# Altium integrated library Analog Devices Clock Generation and Distribution.IntLib: 120 symbols (part 6 of 18)
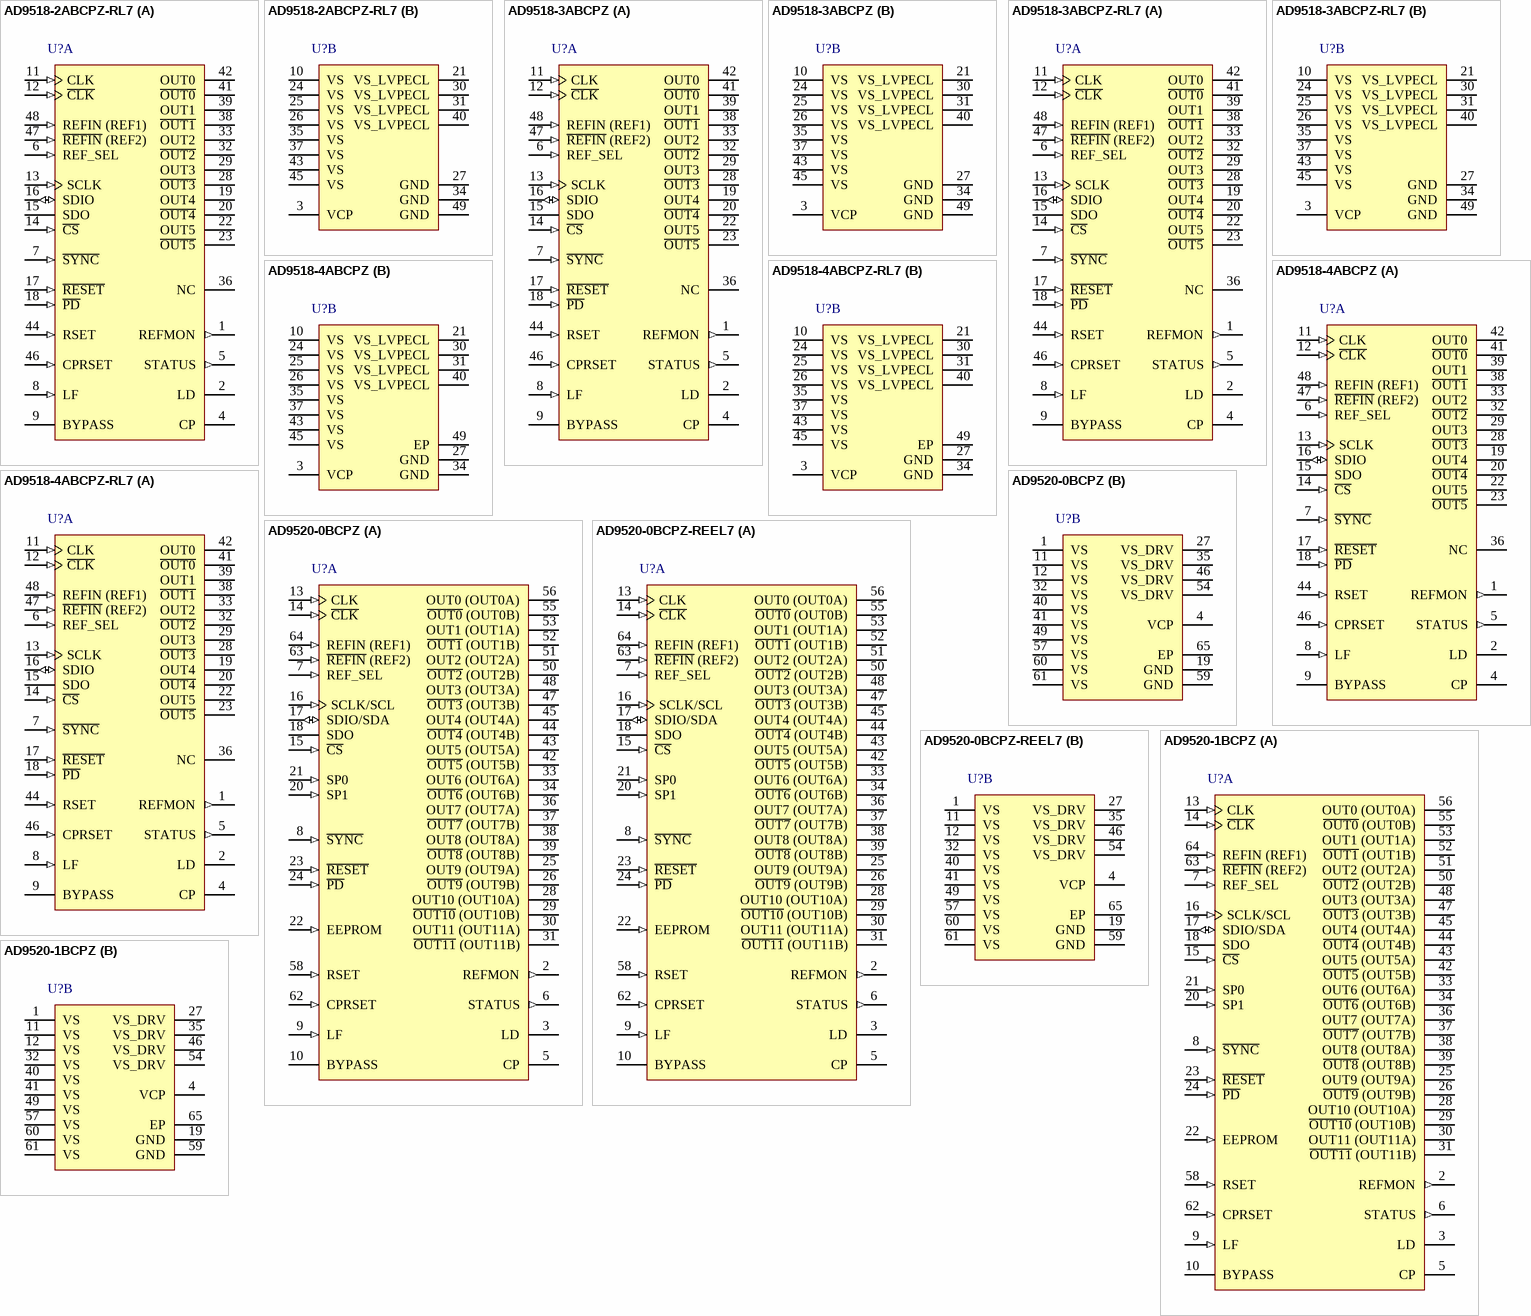
[diagram p17: symbols AD9518-2ABCPZ-RL7 to AD9520-1BCPZ]

## AD9520-0BCPZ-REEL7
designator U?
12 LVPECL / 24 CMOS Outputs Clock Generator with Integrated 2.8 GHz VCO, 3.3 V Supply, Commercial, 64-pin QFN (CP-64-4), Reel; Manufacturer: Analog Devices; PartNumber: AD9520-0BCPZ-REEL7; # of Inputs: 2; # of Outputs: 24; Supply Voltage (V): 3.3; I/O Interface: Serial; Max f-out: 2.95 GHz; On-Chip VCO or DCO: Yes; Output Logic: CMOS, LVPECL; DatasheetVersion: Rev. 0; PackageVersion: 06-12-2012-B, 06/2012; PackageReference: CP-64-4; PackageDescription: 64-Pin Lead Frame Chip Scale Package, Body 9 x 9 mm, Pitch 0.5 mm; Supplier 1: Digi-Key; Supplier Part Number 1: AD9520-0BCPZ-REEL7-ND; Supplier 2: Mouser; Supplier Part Number 2: 584-AD9520-0BCPZR7; Packing: Reel; Mounting Technology: Surface Mount; Code_JEDEC: MO-220-VMMD-4; ComponentLink1Description: Manufacturer URL; ComponentLink1URL: http://www.analog.com/en/index.html; ComponentLink2Description: Datasheet; ComponentLink2URL: http://www.analog.com/static/imported-files/data_sheets/AD9520-0.pdf; ComponentLink3Description: Package Specification; ComponentLink3URL: http://www.analog.com/static/imported-files/packages/PKG_PDF/LFCSP(CP)/CP_64_4.pdf; ComponentLink4Description: Product URL; ComponentLink4URL: http://www.analog.com/en/clock-and-timing/clock-generation-and-distribution/ad9520-0/products/product.html; ComponentLink5Description: Reference Circuit; ComponentLink5URL: http://www.analog.com/en/clock-and-timing/clock-generation-and-distribution/ad9520-0/products/product.html#product-recommendations
footprint ADI-CP-64-4_N (QFN, 64-Leads, Body 9x9mm, Pitch 0.5mm, Thermal Pad 6.2x6.2mm, IPC Medium Density)
footprint ADI-CP-64-4_L (QFN, 64-Leads, Body 9x9mm, Pitch 0.5mm, Thermal Pad 6.2x6.2mm, IPC High Density)
footprint ADI-CP-64-4_M (QFN, 64-Leads, Body 9x9mm, Pitch 0.5mm, Thermal Pad 6.2x6.2mm, IPC Low Density)
part A pins: 2 REFMON (out) "Reference Monitor (Output). This pin has multiple selectable outputs.", 3 LD (hiz) "Lock Detect (Output). This pin has multiple selectable outputs.", 5 CP (hiz) "Charge Pump (Output). This pin connects to an external loop filter. This pin can be left unconnected if the PLL is not used.", 6 STATUS (out) "Programmable Status Output.", 7 REF_SEL (in) "Reference Select. It selects REF1 (low) or REF2 (high). This pin has an internal 30 K ohm pull-down resistor.", 8 ~{SYNC} (in) "Manual Synchronizations and Manual Holdover. This pin initiates a manual synchronization and is used for manual holdover. Active low. This pin has an internal 30 K ohm pull-up resistor.", 9 LF (in) "Loop Filter (Input). It connects internally to the VCO control voltage node.", 10 BYPASS "This pin is for bypassing the LDO to ground with a 220 nF capacitor. This pin can be left unconnected if the PLL is not used.", 13 CLK (in) "Along with C\L\K\, this pin is the differential input for the clock distribution section.", 14 ~{CLK} (in) "Along with CLK, this pin is the differential input for the clock distribution section. If a single-ended input is connected to the CLK pin, connect a 0.1 uF bypass capacitor from this pin to ground.", 15 ~{CS} (in) "Serial Control Port Chip Select; Active Low. This pin has an internal 30 K ohm pull-up resistor.", 16 SCLK/SCL (in) "Serial Control Port Clock Signal. This pin has an internal 30 K ohm pull-down resistor in SPI mode but is high impedance in I2C mode.", 17 SDIO/SDA (io) "Serial Control Port Bidirectional Serial Data In/Out.", 18 SDO (hiz) "Serial Control Port Unidirectional Serial Data Out.", 20 SP1 (in) "Select SPI or I2C as the serial interface port and select the I2C slave address in I2C mode. Three-level logic. This pin is internally biased for the open logic level.", 21 SP0 (in) "Select SPI or I2C as the serial interface port and select the I2C slave address in I2C mode. Three-level logic. This pin is internally biased for the open logic level.", 22 EEPROM (in) "Setting this pin high selects the register values stored in the internal EEPROM to be loaded at reset and/or power-up. Setting this pin low causes the AD9520 to load the hard-coded default register values at power-up/reset. [see datasheet]", 23 ~{RESET} (in) "Chip Reset, Active Low. This pin has an internal 30 K ohm pull-up resistor.", 24 ~{PD} (in) "Chip Power-Down, Active Low. This pin has an internal 30 K ohm pull-up resistor.", 25 OUT9 (OUT9A) (hiz) "Clock Output. This pin can be configured as one side of a differential LVPECL output or as a single-ended CMOS output.", 26 ~{OUT9} (OUT9B) (hiz) "Clock Output. This pin can be configured as one side of a differential LVPECL output or as a single-ended CMOS output.", 28 OUT10 (OUT10A) (hiz) "Clock Output. This pin can be configured as one side of a differential LVPECL output or as a single-ended CMOS output.", 29 ~{OUT10} (OUT10B) (hiz) "Clock Output. This pin can be configured as one side of a differential LVPECL output or as a single-ended CMOS output.", 30 OUT11 (OUT11A) (hiz) "Clock Output. This pin can be configured as one side of a differential LVPECL output or as a single-ended CMOS output.", 31 ~{OUT11} (OUT11B) (hiz) "Clock Output. This pin can be configured as one side of a differential LVPECL output or as a single-ended CMOS output.", 33 OUT6 (OUT6A) (hiz) "Clock Output. This pin can be configured as one side of a differential LVPECL output or as a single-ended CMOS output.", 34 ~{OUT6} (OUT6B) (hiz) "Clock Output. This pin can be configured as one side of a differential LVPECL output or as a single-ended CMOS output.", 36 OUT7 (OUT7A) (hiz) "Clock Output. This pin can be configured as one side of a differential LVPECL output or as a single-ended CMOS output.", 37 ~{OUT7} (OUT7B) (hiz) "Clock Output. This pin can be configured as one side of a differential LVPECL output or as a single-ended CMOS output.", 38 OUT8 (OUT8A) (hiz) "Clock Output. This pin can be configured as one side of a differential LVPECL output or as a single-ended CMOS output.", 39 ~{OUT8} (OUT8B) (hiz) "Clock Output. This pin can be configured as one side of a differential LVPECL output or as a single-ended CMOS output.", 42 ~{OUT5} (OUT5B) (hiz) "Clock Output. This pin can be configured as one side of a differential LVPECL output or as a single-ended CMOS output.", 43 OUT5 (OUT5A) (hiz) "Clock Output. This pin can be configured as one side of a differential LVPECL output or as a single-ended CMOS output.", 44 ~{OUT4} (OUT4B) (hiz) "Clock Output. This pin can be configured as one side of a differential LVPECL output or as a single-ended CMOS output.", 45 OUT4 (OUT4A) (hiz) "Clock Output. This pin can be configured as one side of a differential LVPECL output or as a single-ended CMOS output.", 47 ~{OUT3} (OUT3B) (hiz) "Clock Output. This pin can be configured as one side of a differential LVPECL output or as a single-ended CMOS output.", 48 OUT3 (OUT3A) (hiz) "Clock Output. This pin can be configured as one side of a differential LVPECL output or as a single-ended CMOS output.", 50 ~{OUT2} (OUT2B) (hiz) "Clock Output. This pin can be configured as one side of a differential LVPECL output or as a single-ended CMOS output.", 51 OUT2 (OUT2A) (hiz) "Clock Output. This pin can be configured as one side of a differential LVPECL output or as a single-ended CMOS output.", 52 ~{OUT1} (OUT1B) (hiz) "Clock Output. This pin can be configured as one side of a differential LVPECL output or as a single-ended CMOS output.", 53 OUT1 (OUT1A) (hiz) "Clock Output. This pin can be configured as one side of a differential LVPECL output or as a single-ended CMOS output.", 55 ~{OUT0} (OUT0B) (hiz) "Clock Output. This pin can be configured as one side of a differential LVPECL output or as a single-ended CMOS output.", 56 OUT0 (OUT0A) (hiz) "Clock Output. This pin can be configured as one side of a differential LVPECL output or as a single-ended CMOS output.", 58 RSET (in) "Clock Distribution Current Set Resistor. Connect a 4.12 K ohm resistor from this pin to GND.", 62 CPRSET (in) "Charge Pump Current Set Resistor. Connect a 5.1 K ohm resistor from this pin to GND.This resistor can be omitted if the PLL is not used.", 63 ~{REFIN} (REF2) (in) "Along with REFIN, this is the differential input for the PLL reference. Alternatively, this pin is a single-ended input for REF2.", 64 REFIN (REF1) (in) "Along with R\E\F\I\N\, this is the differential input for the PLL reference. Alternatively, this pin is a single-ended input for REF1."
part B pins: 1 VS (power) "3.3 V Power Pins.", 4 VCP (power) "Power Supply for Charge Pump (CP); VS < VCP < 5.0 V. VCP must still be connected to 3.3 V if the PLL is not used.", 11 VS (power) "3.3 V Power Pins.", 12 VS (power) "3.3 V Power Pins.", 19 GND (power) "Ground Pins.", 27 VS_DRV (power) "Output Driver Power Supply Pins. As a group, these pins can be set to either 2.5 V or 3.3 V. All four pins must be set to the same voltage.", 32 VS (power) "3.3 V Power Pins.", 35 VS_DRV (power) "Output Driver Power Supply Pins. As a group, these pins can be set to either 2.5 V or 3.3 V. All four pins must be set to the same voltage.", 40 VS (power) "3.3 V Power Pins.", 41 VS (power) "3.3 V Power Pins.", 46 VS_DRV (power) "Output Driver Power Supply Pins. As a group, these pins can be set to either 2.5 V or 3.3 V. All four pins must be set to the same voltage.", 49 VS (power) "3.3 V Power Pins.", 54 VS_DRV (power) "Output Driver Power Supply Pins. As a group, these pins can be set to either 2.5 V or 3.3 V. All four pins must be set to the same voltage.", 57 VS (power) "3.3 V Power Pins.", 59 GND (power) "Ground Pins.", 60 VS (power) "3.3 V Power Pins.", 61 VS (power) "3.3 V Power Pins.", 65 EP (power) "The exposed die pad must be connected to GND."

## AD9520-1BCPZ
designator U?
12 LVPECL / 24 CMOS Outputs Clock Generator with Integrated 2.5 GHz VCO, 3.3 V Supply, Commercial, 64-pin QFN (CP-64-4), Tray; Manufacturer: Analog Devices; PartNumber: AD9520-1BCPZ; # of Inputs: 2; # of Outputs: 24; Supply Voltage (V): 3.3; I/O Interface: Serial; Max f-out: 2.65 GHz; On-Chip VCO or DCO: Yes; Output Logic: CMOS, LVPECL; DatasheetVersion: Rev. 0; PackageVersion: 06-12-2012-B, 06/2012; PackageReference: CP-64-4; PackageDescription: 64-Pin Lead Frame Chip Scale Package, Body 9 x 9 mm, Pitch 0.5 mm; Supplier 1: Digi-Key; Supplier Part Number 1: AD9520-1BCPZ-ND; Supplier 2: Newark; Supplier Part Number 2: 11P2934; Supplier 3: Mouser; Supplier Part Number 3: 584-AD9520-1BCPZ; Packing: Tray; Mounting Technology: Surface Mount; Code_JEDEC: MO-220-VMMD-4; ComponentLink1Description: Manufacturer URL; ComponentLink1URL: http://www.analog.com/en/index.html; ComponentLink2Description: Datasheet; ComponentLink2URL: http://www.analog.com/static/imported-files/data_sheets/AD9520-1.pdf; ComponentLink3Description: Package Specification; ComponentLink3URL: http://www.analog.com/static/imported-files/packages/PKG_PDF/LFCSP(CP)/CP_64_4.pdf; ComponentLink4Description: Product URL; ComponentLink4URL: http://www.analog.com/en/clock-and-timing/clock-generation-and-distribution/ad9520-1/products/product.html; ComponentLink5Description: Reference Circuit; ComponentLink5URL: http://www.analog.com/en/clock-and-timing/clock-generation-and-distribution/ad9520-1/products/product.html#product-recommendations
footprint ADI-CP-64-4_N (QFN, 64-Leads, Body 9x9mm, Pitch 0.5mm, Thermal Pad 6.2x6.2mm, IPC Medium Density)
footprint ADI-CP-64-4_L (QFN, 64-Leads, Body 9x9mm, Pitch 0.5mm, Thermal Pad 6.2x6.2mm, IPC High Density)
footprint ADI-CP-64-4_M (QFN, 64-Leads, Body 9x9mm, Pitch 0.5mm, Thermal Pad 6.2x6.2mm, IPC Low Density)
part A pins: 2 REFMON (out) "Reference Monitor (Output). This pin has multiple selectable outputs.", 3 LD (hiz) "Lock Detect (Output). This pin has multiple selectable outputs.", 5 CP (hiz) "Charge Pump (Output). This pin connects to an external loop filter. This pin can be left unconnected if the PLL is not used.", 6 STATUS (out) "Programmable Status Output.", 7 REF_SEL (in) "Reference Select. It selects REF1 (low) or REF2 (high). This pin has an internal 30 K ohm pull-down resistor.", 8 ~{SYNC} (in) "Manual Synchronizations and Manual Holdover. This pin initiates a manual synchronization and is used for manual holdover. Active low. This pin has an internal 30 K ohm pull-up resistor.", 9 LF (in) "Loop Filter (Input). It connects internally to the VCO control voltage node.", 10 BYPASS "This pin is for bypassing the LDO to ground with a 220 nF capacitor. This pin can be left unconnected if the PLL is not used.", 13 CLK (in) "Along with C\L\K\, this pin is the differential input for the clock distribution section.", 14 ~{CLK} (in) "Along with CLK, this pin is the differential input for the clock distribution section. If a single-ended input is connected to the CLK pin, connect a 0.1 uF bypass capacitor from this pin to ground.", 15 ~{CS} (in) "Serial Control Port Chip Select; Active Low. This pin has an internal 30 K ohm pull-up resistor.", 16 SCLK/SCL (in) "Serial Control Port Clock Signal. This pin has an internal 30 K ohm pull-down resistor in SPI mode but is high impedance in I2C mode.", 17 SDIO/SDA (io) "Serial Control Port Bidirectional Serial Data In/Out.", 18 SDO (hiz) "Serial Control Port Unidirectional Serial Data Out.", 20 SP1 (in) "Select SPI or I2C as the serial interface port and select the I2C slave address in I2C mode. Three-level logic. This pin is internally biased for the open logic level.", 21 SP0 (in) "Select SPI or I2C as the serial interface port and select the I2C slave address in I2C mode. Three-level logic. This pin is internally biased for the open logic level.", 22 EEPROM (in) "Setting this pin high selects the register values stored in the internal EEPROM to be loaded at reset and/or power-up. Setting this pin low causes the AD9520 to load the hard-coded default register values at power-up/reset. [see datasheet]", 23 ~{RESET} (in) "Chip Reset, Active Low. This pin has an internal 30 K ohm pull-up resistor.", 24 ~{PD} (in) "Chip Power-Down, Active Low. This pin has an internal 30 K ohm pull-up resistor.", 25 OUT9 (OUT9A) (hiz) "Clock Output. This pin can be configured as one side of a differential LVPECL output or as a single-ended CMOS output.", 26 ~{OUT9} (OUT9B) (hiz) "Clock Output. This pin can be configured as one side of a differential LVPECL output or as a single-ended CMOS output.", 28 OUT10 (OUT10A) (hiz) "Clock Output. This pin can be configured as one side of a differential LVPECL output or as a single-ended CMOS output.", 29 ~{OUT10} (OUT10B) (hiz) "Clock Output. This pin can be configured as one side of a differential LVPECL output or as a single-ended CMOS output.", 30 OUT11 (OUT11A) (hiz) "Clock Output. This pin can be configured as one side of a differential LVPECL output or as a single-ended CMOS output.", 31 ~{OUT11} (OUT11B) (hiz) "Clock Output. This pin can be configured as one side of a differential LVPECL output or as a single-ended CMOS output.", 33 OUT6 (OUT6A) (hiz) "Clock Output. This pin can be configured as one side of a differential LVPECL output or as a single-ended CMOS output.", 34 ~{OUT6} (OUT6B) (hiz) "Clock Output. This pin can be configured as one side of a differential LVPECL output or as a single-ended CMOS output.", 36 OUT7 (OUT7A) (hiz) "Clock Output. This pin can be configured as one side of a differential LVPECL output or as a single-ended CMOS output.", 37 ~{OUT7} (OUT7B) (hiz) "Clock Output. This pin can be configured as one side of a differential LVPECL output or as a single-ended CMOS output.", 38 OUT8 (OUT8A) (hiz) "Clock Output. This pin can be configured as one side of a differential LVPECL output or as a single-ended CMOS output.", 39 ~{OUT8} (OUT8B) (hiz) "Clock Output. This pin can be configured as one side of a differential LVPECL output or as a single-ended CMOS output.", 42 ~{OUT5} (OUT5B) (hiz) "Clock Output. This pin can be configured as one side of a differential LVPECL output or as a single-ended CMOS output.", 43 OUT5 (OUT5A) (hiz) "Clock Output. This pin can be configured as one side of a differential LVPECL output or as a single-ended CMOS output.", 44 ~{OUT4} (OUT4B) (hiz) "Clock Output. This pin can be configured as one side of a differential LVPECL output or as a single-ended CMOS output.", 45 OUT4 (OUT4A) (hiz) "Clock Output. This pin can be configured as one side of a differential LVPECL output or as a single-ended CMOS output.", 47 ~{OUT3} (OUT3B) (hiz) "Clock Output. This pin can be configured as one side of a differential LVPECL output or as a single-ended CMOS output.", 48 OUT3 (OUT3A) (hiz) "Clock Output. This pin can be configured as one side of a differential LVPECL output or as a single-ended CMOS output.", 50 ~{OUT2} (OUT2B) (hiz) "Clock Output. This pin can be configured as one side of a differential LVPECL output or as a single-ended CMOS output.", 51 OUT2 (OUT2A) (hiz) "Clock Output. This pin can be configured as one side of a differential LVPECL output or as a single-ended CMOS output.", 52 ~{OUT1} (OUT1B) (hiz) "Clock Output. This pin can be configured as one side of a differential LVPECL output or as a single-ended CMOS output.", 53 OUT1 (OUT1A) (hiz) "Clock Output. This pin can be configured as one side of a differential LVPECL output or as a single-ended CMOS output.", 55 ~{OUT0} (OUT0B) (hiz) "Clock Output. This pin can be configured as one side of a differential LVPECL output or as a single-ended CMOS output.", 56 OUT0 (OUT0A) (hiz) "Clock Output. This pin can be configured as one side of a differential LVPECL output or as a single-ended CMOS output.", 58 RSET (in) "Clock Distribution Current Set Resistor. Connect a 4.12 K ohm resistor from this pin to GND.", 62 CPRSET (in) "Charge Pump Current Set Resistor. Connect a 5.1 K ohm resistor from this pin to GND.This resistor can be omitted if the PLL is not used.", 63 ~{REFIN} (REF2) (in) "Along with REFIN, this is the differential input for the PLL reference. Alternatively, this pin is a single-ended input for REF2.", 64 REFIN (REF1) (in) "Along with R\E\F\I\N\, this is the differential input for the PLL reference. Alternatively, this pin is a single-ended input for REF1."
part B pins: 1 VS (power) "3.3 V Power Pins.", 4 VCP (power) "Power Supply for Charge Pump (CP); VS < VCP < 5.0 V. VCP must still be connected to 3.3 V if the PLL is not used.", 11 VS (power) "3.3 V Power Pins.", 12 VS (power) "3.3 V Power Pins.", 19 GND (power) "Ground Pins.", 27 VS_DRV (power) "Output Driver Power Supply Pins. As a group, these pins can be set to either 2.5 V or 3.3 V. All four pins must be set to the same voltage.", 32 VS (power) "3.3 V Power Pins.", 35 VS_DRV (power) "Output Driver Power Supply Pins. As a group, these pins can be set to either 2.5 V or 3.3 V. All four pins must be set to the same voltage.", 40 VS (power) "3.3 V Power Pins.", 41 VS (power) "3.3 V Power Pins.", 46 VS_DRV (power) "Output Driver Power Supply Pins. As a group, these pins can be set to either 2.5 V or 3.3 V. All four pins must be set to the same voltage.", 49 VS (power) "3.3 V Power Pins.", 54 VS_DRV (power) "Output Driver Power Supply Pins. As a group, these pins can be set to either 2.5 V or 3.3 V. All four pins must be set to the same voltage.", 57 VS (power) "3.3 V Power Pins.", 59 GND (power) "Ground Pins.", 60 VS (power) "3.3 V Power Pins.", 61 VS (power) "3.3 V Power Pins.", 65 EP (power) "The exposed die pad must be connected to GND."

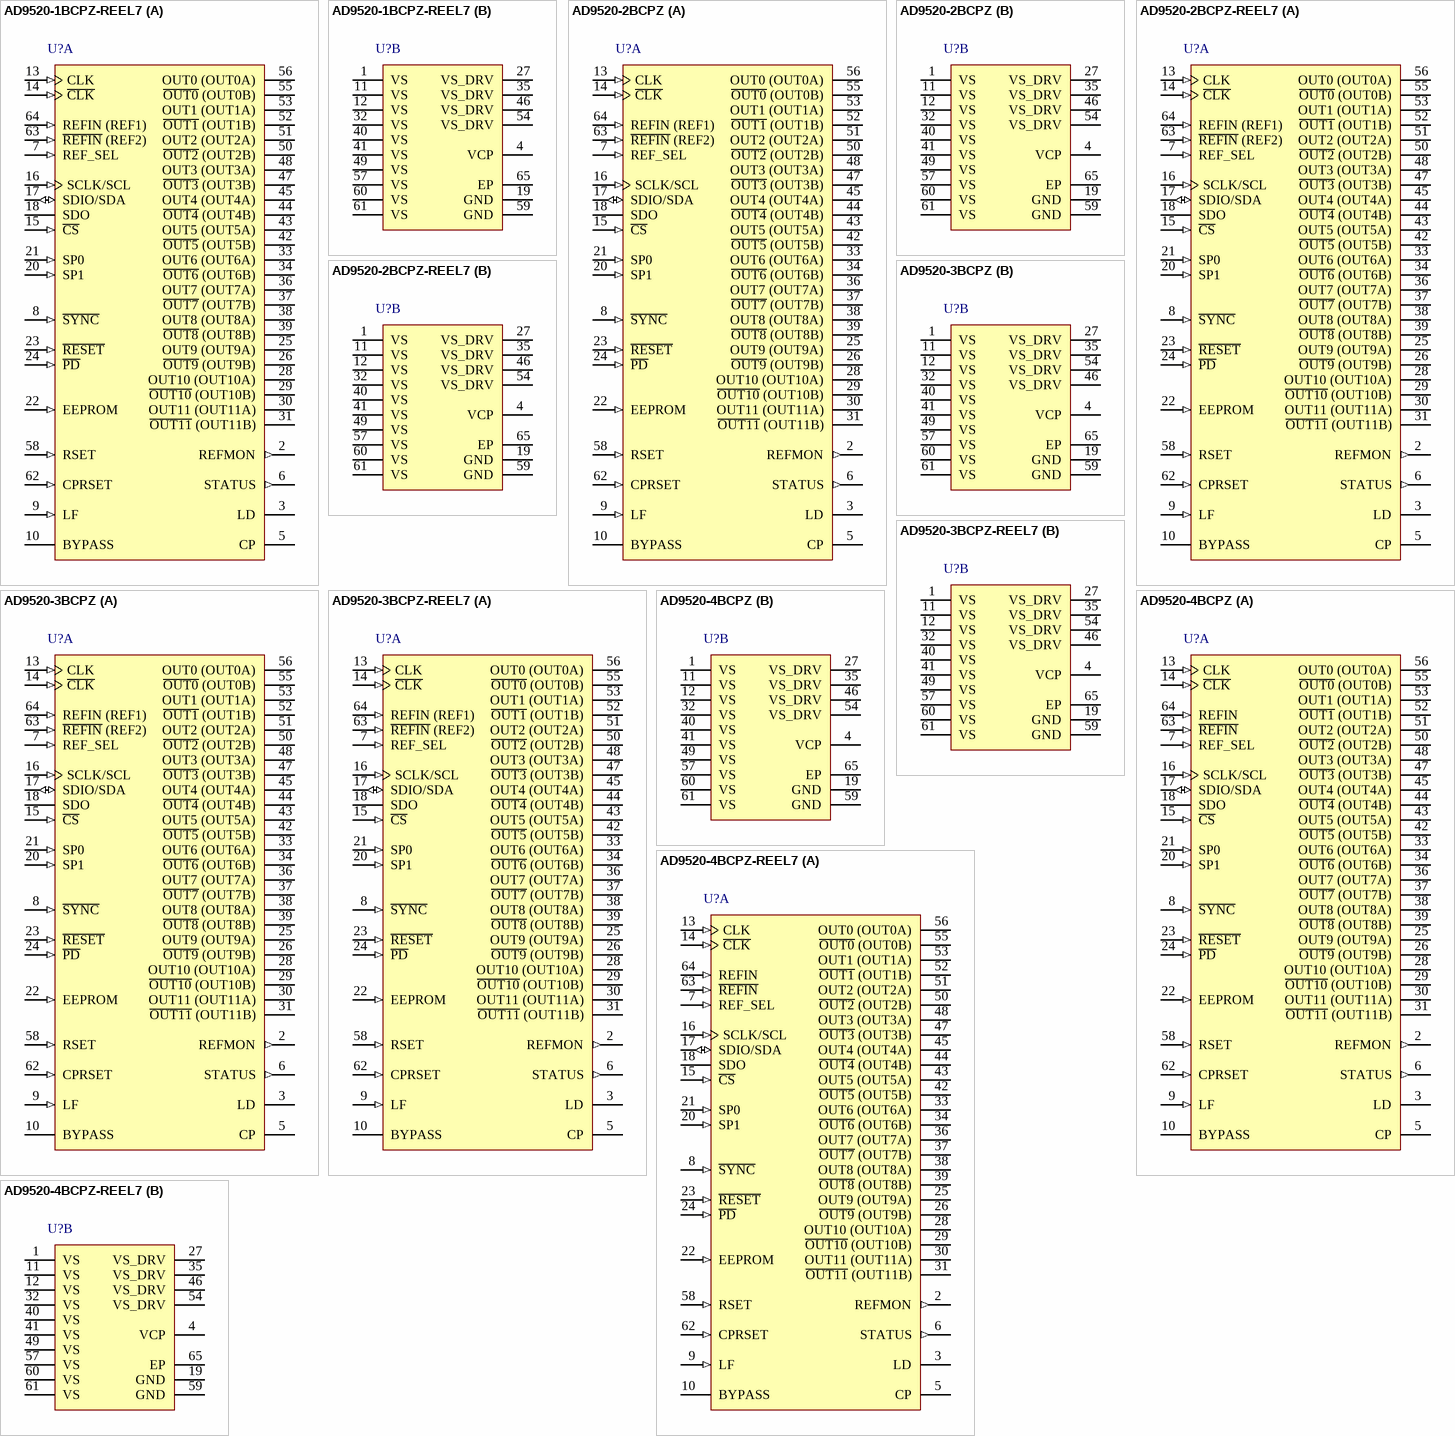
[diagram p4: symbols AD9520-1BCPZ-REEL7 to AD9520-4BCPZ-REEL7]

## AD9520-1BCPZ-REEL7
designator U?
12 LVPECL / 24 CMOS Outputs Clock Generator with Integrated 2.5 GHz VCO, 3.3 V Supply, Commercial, 64-pin QFN (CP-64-4), Reel; Manufacturer: Analog Devices; PartNumber: AD9520-1BCPZ-REEL7; # of Inputs: 2; # of Outputs: 24; Supply Voltage (V): 3.3; I/O Interface: Serial; Max f-out: 2.65 GHz; On-Chip VCO or DCO: Yes; Output Logic: CMOS, LVPECL; DatasheetVersion: Rev. 0; PackageVersion: 06-12-2012-B, 06/2012; PackageReference: CP-64-4; PackageDescription: 64-Pin Lead Frame Chip Scale Package, Body 9 x 9 mm, Pitch 0.5 mm; Supplier 1: Digi-Key; Supplier Part Number 1: AD9520-1BCPZ-REEL7-ND; Supplier 2: Mouser; Supplier Part Number 2: 584-AD9520-1BCPZR7; Packing: Reel; Mounting Technology: Surface Mount; Code_JEDEC: MO-220-VMMD-4; ComponentLink1Description: Manufacturer URL; ComponentLink1URL: http://www.analog.com/en/index.html; ComponentLink2Description: Datasheet; ComponentLink2URL: http://www.analog.com/static/imported-files/data_sheets/AD9520-1.pdf; ComponentLink3Description: Package Specification; ComponentLink3URL: http://www.analog.com/static/imported-files/packages/PKG_PDF/LFCSP(CP)/CP_64_4.pdf; ComponentLink4Description: Product URL; ComponentLink4URL: http://www.analog.com/en/clock-and-timing/clock-generation-and-distribution/ad9520-1/products/product.html; ComponentLink5Description: Reference Circuit; ComponentLink5URL: http://www.analog.com/en/clock-and-timing/clock-generation-and-distribution/ad9520-1/products/product.html#product-recommendations
footprint ADI-CP-64-4_N (QFN, 64-Leads, Body 9x9mm, Pitch 0.5mm, Thermal Pad 6.2x6.2mm, IPC Medium Density)
footprint ADI-CP-64-4_L (QFN, 64-Leads, Body 9x9mm, Pitch 0.5mm, Thermal Pad 6.2x6.2mm, IPC High Density)
footprint ADI-CP-64-4_M (QFN, 64-Leads, Body 9x9mm, Pitch 0.5mm, Thermal Pad 6.2x6.2mm, IPC Low Density)
part A pins: 2 REFMON (out) "Reference Monitor (Output). This pin has multiple selectable outputs.", 3 LD (hiz) "Lock Detect (Output). This pin has multiple selectable outputs.", 5 CP (hiz) "Charge Pump (Output). This pin connects to an external loop filter. This pin can be left unconnected if the PLL is not used.", 6 STATUS (out) "Programmable Status Output.", 7 REF_SEL (in) "Reference Select. It selects REF1 (low) or REF2 (high). This pin has an internal 30 K ohm pull-down resistor.", 8 ~{SYNC} (in) "Manual Synchronizations and Manual Holdover. This pin initiates a manual synchronization and is used for manual holdover. Active low. This pin has an internal 30 K ohm pull-up resistor.", 9 LF (in) "Loop Filter (Input). It connects internally to the VCO control voltage node.", 10 BYPASS "This pin is for bypassing the LDO to ground with a 220 nF capacitor. This pin can be left unconnected if the PLL is not used.", 13 CLK (in) "Along with C\L\K\, this pin is the differential input for the clock distribution section.", 14 ~{CLK} (in) "Along with CLK, this pin is the differential input for the clock distribution section. If a single-ended input is connected to the CLK pin, connect a 0.1 uF bypass capacitor from this pin to ground.", 15 ~{CS} (in) "Serial Control Port Chip Select; Active Low. This pin has an internal 30 K ohm pull-up resistor.", 16 SCLK/SCL (in) "Serial Control Port Clock Signal. This pin has an internal 30 K ohm pull-down resistor in SPI mode but is high impedance in I2C mode.", 17 SDIO/SDA (io) "Serial Control Port Bidirectional Serial Data In/Out.", 18 SDO (hiz) "Serial Control Port Unidirectional Serial Data Out.", 20 SP1 (in) "Select SPI or I2C as the serial interface port and select the I2C slave address in I2C mode. Three-level logic. This pin is internally biased for the open logic level.", 21 SP0 (in) "Select SPI or I2C as the serial interface port and select the I2C slave address in I2C mode. Three-level logic. This pin is internally biased for the open logic level.", 22 EEPROM (in) "Setting this pin high selects the register values stored in the internal EEPROM to be loaded at reset and/or power-up. Setting this pin low causes the AD9520 to load the hard-coded default register values at power-up/reset. [see datasheet]", 23 ~{RESET} (in) "Chip Reset, Active Low. This pin has an internal 30 K ohm pull-up resistor.", 24 ~{PD} (in) "Chip Power-Down, Active Low. This pin has an internal 30 K ohm pull-up resistor.", 25 OUT9 (OUT9A) (hiz) "Clock Output. This pin can be configured as one side of a differential LVPECL output or as a single-ended CMOS output.", 26 ~{OUT9} (OUT9B) (hiz) "Clock Output. This pin can be configured as one side of a differential LVPECL output or as a single-ended CMOS output.", 28 OUT10 (OUT10A) (hiz) "Clock Output. This pin can be configured as one side of a differential LVPECL output or as a single-ended CMOS output.", 29 ~{OUT10} (OUT10B) (hiz) "Clock Output. This pin can be configured as one side of a differential LVPECL output or as a single-ended CMOS output.", 30 OUT11 (OUT11A) (hiz) "Clock Output. This pin can be configured as one side of a differential LVPECL output or as a single-ended CMOS output.", 31 ~{OUT11} (OUT11B) (hiz) "Clock Output. This pin can be configured as one side of a differential LVPECL output or as a single-ended CMOS output.", 33 OUT6 (OUT6A) (hiz) "Clock Output. This pin can be configured as one side of a differential LVPECL output or as a single-ended CMOS output.", 34 ~{OUT6} (OUT6B) (hiz) "Clock Output. This pin can be configured as one side of a differential LVPECL output or as a single-ended CMOS output.", 36 OUT7 (OUT7A) (hiz) "Clock Output. This pin can be configured as one side of a differential LVPECL output or as a single-ended CMOS output.", 37 ~{OUT7} (OUT7B) (hiz) "Clock Output. This pin can be configured as one side of a differential LVPECL output or as a single-ended CMOS output.", 38 OUT8 (OUT8A) (hiz) "Clock Output. This pin can be configured as one side of a differential LVPECL output or as a single-ended CMOS output.", 39 ~{OUT8} (OUT8B) (hiz) "Clock Output. This pin can be configured as one side of a differential LVPECL output or as a single-ended CMOS output.", 42 ~{OUT5} (OUT5B) (hiz) "Clock Output. This pin can be configured as one side of a differential LVPECL output or as a single-ended CMOS output.", 43 OUT5 (OUT5A) (hiz) "Clock Output. This pin can be configured as one side of a differential LVPECL output or as a single-ended CMOS output.", 44 ~{OUT4} (OUT4B) (hiz) "Clock Output. This pin can be configured as one side of a differential LVPECL output or as a single-ended CMOS output.", 45 OUT4 (OUT4A) (hiz) "Clock Output. This pin can be configured as one side of a differential LVPECL output or as a single-ended CMOS output.", 47 ~{OUT3} (OUT3B) (hiz) "Clock Output. This pin can be configured as one side of a differential LVPECL output or as a single-ended CMOS output.", 48 OUT3 (OUT3A) (hiz) "Clock Output. This pin can be configured as one side of a differential LVPECL output or as a single-ended CMOS output.", 50 ~{OUT2} (OUT2B) (hiz) "Clock Output. This pin can be configured as one side of a differential LVPECL output or as a single-ended CMOS output.", 51 OUT2 (OUT2A) (hiz) "Clock Output. This pin can be configured as one side of a differential LVPECL output or as a single-ended CMOS output.", 52 ~{OUT1} (OUT1B) (hiz) "Clock Output. This pin can be configured as one side of a differential LVPECL output or as a single-ended CMOS output.", 53 OUT1 (OUT1A) (hiz) "Clock Output. This pin can be configured as one side of a differential LVPECL output or as a single-ended CMOS output.", 55 ~{OUT0} (OUT0B) (hiz) "Clock Output. This pin can be configured as one side of a differential LVPECL output or as a single-ended CMOS output.", 56 OUT0 (OUT0A) (hiz) "Clock Output. This pin can be configured as one side of a differential LVPECL output or as a single-ended CMOS output.", 58 RSET (in) "Clock Distribution Current Set Resistor. Connect a 4.12 K ohm resistor from this pin to GND.", 62 CPRSET (in) "Charge Pump Current Set Resistor. Connect a 5.1 K ohm resistor from this pin to GND.This resistor can be omitted if the PLL is not used.", 63 ~{REFIN} (REF2) (in) "Along with REFIN, this is the differential input for the PLL reference. Alternatively, this pin is a single-ended input for REF2.", 64 REFIN (REF1) (in) "Along with R\E\F\I\N\, this is the differential input for the PLL reference. Alternatively, this pin is a single-ended input for REF1."
part B pins: 1 VS (power) "3.3 V Power Pins.", 4 VCP (power) "Power Supply for Charge Pump (CP); VS < VCP < 5.0 V. VCP must still be connected to 3.3 V if the PLL is not used.", 11 VS (power) "3.3 V Power Pins.", 12 VS (power) "3.3 V Power Pins.", 19 GND (power) "Ground Pins.", 27 VS_DRV (power) "Output Driver Power Supply Pins. As a group, these pins can be set to either 2.5 V or 3.3 V. All four pins must be set to the same voltage.", 32 VS (power) "3.3 V Power Pins.", 35 VS_DRV (power) "Output Driver Power Supply Pins. As a group, these pins can be set to either 2.5 V or 3.3 V. All four pins must be set to the same voltage.", 40 VS (power) "3.3 V Power Pins.", 41 VS (power) "3.3 V Power Pins.", 46 VS_DRV (power) "Output Driver Power Supply Pins. As a group, these pins can be set to either 2.5 V or 3.3 V. All four pins must be set to the same voltage.", 49 VS (power) "3.3 V Power Pins.", 54 VS_DRV (power) "Output Driver Power Supply Pins. As a group, these pins can be set to either 2.5 V or 3.3 V. All four pins must be set to the same voltage.", 57 VS (power) "3.3 V Power Pins.", 59 GND (power) "Ground Pins.", 60 VS (power) "3.3 V Power Pins.", 61 VS (power) "3.3 V Power Pins.", 65 EP (power) "The exposed die pad must be connected to GND."

## AD9520-2BCPZ
designator U?
12 LVPECL / 24 CMOS Outputs Clock Generator with Integrated 2.2 GHz VCO, 3.3 V Supply, Commercial, 64-pin QFN (CP-64-4), Tray; Manufacturer: Analog Devices; PartNumber: AD9520-2BCPZ; # of Inputs: 2; # of Outputs: 24; Supply Voltage (V): 3.3; I/O Interface: Serial; Max f-out: 2.335 GHz; On-Chip VCO or DCO: Yes; Output Logic: CMOS, LVPECL; DatasheetVersion: Rev. 0; PackageVersion: 06-12-2012-B, 06/2012; PackageReference: CP-64-4; PackageDescription: 64-Pin Lead Frame Chip Scale Package, Body 9 x 9 mm, Pitch 0.5 mm; Supplier 1: Digi-Key; Supplier Part Number 1: AD9520-2BCPZ-ND; Supplier 2: Mouser; Supplier Part Number 2: 584-AD9520-2BCPZ; Packing: Tray; Mounting Technology: Surface Mount; Code_JEDEC: MO-220-VMMD-4; ComponentLink1Description: Manufacturer URL; ComponentLink1URL: http://www.analog.com/en/index.html; ComponentLink2Description: Datasheet; ComponentLink2URL: http://www.analog.com/static/imported-files/data_sheets/AD9520-2.pdf; ComponentLink3Description: Package Specification; ComponentLink3URL: http://www.analog.com/static/imported-files/packages/PKG_PDF/LFCSP(CP)/CP_64_4.pdf; ComponentLink4Description: Product URL; ComponentLink4URL: http://www.analog.com/en/clock-and-timing/clock-generation-and-distribution/ad9520-2/products/product.html; ComponentLink5Description: Reference Circuit; ComponentLink5URL: http://www.analog.com/en/clock-and-timing/clock-generation-and-distribution/ad9520-2/products/product.html#product-recommendations
footprint ADI-CP-64-4_N (QFN, 64-Leads, Body 9x9mm, Pitch 0.5mm, Thermal Pad 6.2x6.2mm, IPC Medium Density)
footprint ADI-CP-64-4_L (QFN, 64-Leads, Body 9x9mm, Pitch 0.5mm, Thermal Pad 6.2x6.2mm, IPC High Density)
footprint ADI-CP-64-4_M (QFN, 64-Leads, Body 9x9mm, Pitch 0.5mm, Thermal Pad 6.2x6.2mm, IPC Low Density)
part A pins: 2 REFMON (out) "Reference Monitor (Output). This pin has multiple selectable outputs.", 3 LD (hiz) "Lock Detect (Output). This pin has multiple selectable outputs.", 5 CP (hiz) "Charge Pump (Output). This pin connects to an external loop filter. This pin can be left unconnected if the PLL is not used.", 6 STATUS (out) "Programmable Status Output.", 7 REF_SEL (in) "Reference Select. It selects REF1 (low) or REF2 (high). This pin has an internal 30 K ohm pull-down resistor.", 8 ~{SYNC} (in) "Manual Synchronizations and Manual Holdover. This pin initiates a manual synchronization and is used for manual holdover. Active low. This pin has an internal 30 K ohm pull-up resistor.", 9 LF (in) "Loop Filter (Input). It connects internally to the VCO control voltage node.", 10 BYPASS "This pin is for bypassing the LDO to ground with a 220 nF capacitor. This pin can be left unconnected if the PLL is not used.", 13 CLK (in) "Along with C\L\K\, this pin is the differential input for the clock distribution section.", 14 ~{CLK} (in) "Along with CLK, this pin is the differential input for the clock distribution section. If a single-ended input is connected to the CLK pin, connect a 0.1 uF bypass capacitor from this pin to ground.", 15 ~{CS} (in) "Serial Control Port Chip Select; Active Low. This pin has an internal 30 K ohm pull-up resistor.", 16 SCLK/SCL (in) "Serial Control Port Clock Signal. This pin has an internal 30 K ohm pull-down resistor in SPI mode but is high impedance in I2C mode.", 17 SDIO/SDA (io) "Serial Control Port Bidirectional Serial Data In/Out.", 18 SDO (hiz) "Serial Control Port Unidirectional Serial Data Out.", 20 SP1 (in) "Select SPI or I2C as the serial interface port and select the I2C slave address in I2C mode. Three-level logic. This pin is internally biased for the open logic level.", 21 SP0 (in) "Select SPI or I2C as the serial interface port and select the I2C slave address in I2C mode. Three-level logic. This pin is internally biased for the open logic level.", 22 EEPROM (in) "Setting this pin high selects the register values stored in the internal EEPROM to be loaded at reset and/or power-up. Setting this pin low causes the AD9520 to load the hard-coded default register values at power-up/reset. [see datasheet]", 23 ~{RESET} (in) "Chip Reset, Active Low. This pin has an internal 30 K ohm pull-up resistor.", 24 ~{PD} (in) "Chip Power-Down, Active Low. This pin has an internal 30 K ohm pull-up resistor.", 25 OUT9 (OUT9A) (hiz) "Clock Output. This pin can be configured as one side of a differential LVPECL output or as a single-ended CMOS output.", 26 ~{OUT9} (OUT9B) (hiz) "Clock Output. This pin can be configured as one side of a differential LVPECL output or as a single-ended CMOS output.", 28 OUT10 (OUT10A) (hiz) "Clock Output. This pin can be configured as one side of a differential LVPECL output or as a single-ended CMOS output.", 29 ~{OUT10} (OUT10B) (hiz) "Clock Output. This pin can be configured as one side of a differential LVPECL output or as a single-ended CMOS output.", 30 OUT11 (OUT11A) (hiz) "Clock Output. This pin can be configured as one side of a differential LVPECL output or as a single-ended CMOS output.", 31 ~{OUT11} (OUT11B) (hiz) "Clock Output. This pin can be configured as one side of a differential LVPECL output or as a single-ended CMOS output.", 33 OUT6 (OUT6A) (hiz) "Clock Output. This pin can be configured as one side of a differential LVPECL output or as a single-ended CMOS output.", 34 ~{OUT6} (OUT6B) (hiz) "Clock Output. This pin can be configured as one side of a differential LVPECL output or as a single-ended CMOS output.", 36 OUT7 (OUT7A) (hiz) "Clock Output. This pin can be configured as one side of a differential LVPECL output or as a single-ended CMOS output.", 37 ~{OUT7} (OUT7B) (hiz) "Clock Output. This pin can be configured as one side of a differential LVPECL output or as a single-ended CMOS output.", 38 OUT8 (OUT8A) (hiz) "Clock Output. This pin can be configured as one side of a differential LVPECL output or as a single-ended CMOS output.", 39 ~{OUT8} (OUT8B) (hiz) "Clock Output. This pin can be configured as one side of a differential LVPECL output or as a single-ended CMOS output.", 42 ~{OUT5} (OUT5B) (hiz) "Clock Output. This pin can be configured as one side of a differential LVPECL output or as a single-ended CMOS output.", 43 OUT5 (OUT5A) (hiz) "Clock Output. This pin can be configured as one side of a differential LVPECL output or as a single-ended CMOS output.", 44 ~{OUT4} (OUT4B) (hiz) "Clock Output. This pin can be configured as one side of a differential LVPECL output or as a single-ended CMOS output.", 45 OUT4 (OUT4A) (hiz) "Clock Output. This pin can be configured as one side of a differential LVPECL output or as a single-ended CMOS output.", 47 ~{OUT3} (OUT3B) (hiz) "Clock Output. This pin can be configured as one side of a differential LVPECL output or as a single-ended CMOS output.", 48 OUT3 (OUT3A) (hiz) "Clock Output. This pin can be configured as one side of a differential LVPECL output or as a single-ended CMOS output.", 50 ~{OUT2} (OUT2B) (hiz) "Clock Output. This pin can be configured as one side of a differential LVPECL output or as a single-ended CMOS output.", 51 OUT2 (OUT2A) (hiz) "Clock Output. This pin can be configured as one side of a differential LVPECL output or as a single-ended CMOS output.", 52 ~{OUT1} (OUT1B) (hiz) "Clock Output. This pin can be configured as one side of a differential LVPECL output or as a single-ended CMOS output.", 53 OUT1 (OUT1A) (hiz) "Clock Output. This pin can be configured as one side of a differential LVPECL output or as a single-ended CMOS output.", 55 ~{OUT0} (OUT0B) (hiz) "Clock Output. This pin can be configured as one side of a differential LVPECL output or as a single-ended CMOS output.", 56 OUT0 (OUT0A) (hiz) "Clock Output. This pin can be configured as one side of a differential LVPECL output or as a single-ended CMOS output.", 58 RSET (in) "Clock Distribution Current Set Resistor. Connect a 4.12 K ohm resistor from this pin to GND.", 62 CPRSET (in) "Charge Pump Current Set Resistor. Connect a 5.1 K ohm resistor from this pin to GND.This resistor can be omitted if the PLL is not used.", 63 ~{REFIN} (REF2) (in) "Along with REFIN, this is the differential input for the PLL reference. Alternatively, this pin is a single-ended input for REF2.", 64 REFIN (REF1) (in) "Along with R\E\F\I\N\, this is the differential input for the PLL reference. Alternatively, this pin is a single-ended input for REF1."
part B pins: 1 VS (power) "3.3 V Power Pins.", 4 VCP (power) "Power Supply for Charge Pump (CP); VS < VCP < 5.0 V. VCP must still be connected to 3.3 V if the PLL is not used.", 11 VS (power) "3.3 V Power Pins.", 12 VS (power) "3.3 V Power Pins.", 19 GND (power) "Ground Pins.", 27 VS_DRV (power) "Output Driver Power Supply Pins. As a group, these pins can be set to either 2.5 V or 3.3 V. All four pins must be set to the same voltage.", 32 VS (power) "3.3 V Power Pins.", 35 VS_DRV (power) "Output Driver Power Supply Pins. As a group, these pins can be set to either 2.5 V or 3.3 V. All four pins must be set to the same voltage.", 40 VS (power) "3.3 V Power Pins.", 41 VS (power) "3.3 V Power Pins.", 46 VS_DRV (power) "Output Driver Power Supply Pins. As a group, these pins can be set to either 2.5 V or 3.3 V. All four pins must be set to the same voltage.", 49 VS (power) "3.3 V Power Pins.", 54 VS_DRV (power) "Output Driver Power Supply Pins. As a group, these pins can be set to either 2.5 V or 3.3 V. All four pins must be set to the same voltage.", 57 VS (power) "3.3 V Power Pins.", 59 GND (power) "Ground Pins.", 60 VS (power) "3.3 V Power Pins.", 61 VS (power) "3.3 V Power Pins.", 65 EP (power) "The exposed die pad must be connected to GND."

## AD9520-2BCPZ-REEL7
designator U?
12 LVPECL / 24 CMOS Outputs Clock Generator with Integrated 2.2 GHz VCO, 3.3 V Supply, Commercial, 64-pin QFN (CP-64-4), Reel; Manufacturer: Analog Devices; PartNumber: AD9520-2BCPZ-REEL7; # of Inputs: 2; # of Outputs: 24; Supply Voltage (V): 3.3; I/O Interface: Serial; Max f-out: 2.335 GHz; On-Chip VCO or DCO: Yes; Output Logic: CMOS, LVPECL; DatasheetVersion: Rev. 0; PackageVersion: 06-12-2012-B, 06/2012; PackageReference: CP-64-4; PackageDescription: 64-Pin Lead Frame Chip Scale Package, Body 9 x 9 mm, Pitch 0.5 mm; Supplier 1: Digi-Key; Supplier Part Number 1: AD9520-2BCPZ-REEL7-ND; Supplier 2: Mouser; Supplier Part Number 2: 584-AD9520-2BCPZR7; Packing: Reel; Mounting Technology: Surface Mount; Code_JEDEC: MO-220-VMMD-4; ComponentLink1Description: Manufacturer URL; ComponentLink1URL: http://www.analog.com/en/index.html; ComponentLink2Description: Datasheet; ComponentLink2URL: http://www.analog.com/static/imported-files/data_sheets/AD9520-2.pdf; ComponentLink3Description: Package Specification; ComponentLink3URL: http://www.analog.com/static/imported-files/packages/PKG_PDF/LFCSP(CP)/CP_64_4.pdf; ComponentLink4Description: Product URL; ComponentLink4URL: http://www.analog.com/en/clock-and-timing/clock-generation-and-distribution/ad9520-2/products/product.html; ComponentLink5Description: Reference Circuit; ComponentLink5URL: http://www.analog.com/en/clock-and-timing/clock-generation-and-distribution/ad9520-2/products/product.html#product-recommendations
footprint ADI-CP-64-4_N (QFN, 64-Leads, Body 9x9mm, Pitch 0.5mm, Thermal Pad 6.2x6.2mm, IPC Medium Density)
footprint ADI-CP-64-4_L (QFN, 64-Leads, Body 9x9mm, Pitch 0.5mm, Thermal Pad 6.2x6.2mm, IPC High Density)
footprint ADI-CP-64-4_M (QFN, 64-Leads, Body 9x9mm, Pitch 0.5mm, Thermal Pad 6.2x6.2mm, IPC Low Density)
part A pins: 2 REFMON (out) "Reference Monitor (Output). This pin has multiple selectable outputs.", 3 LD (hiz) "Lock Detect (Output). This pin has multiple selectable outputs.", 5 CP (hiz) "Charge Pump (Output). This pin connects to an external loop filter. This pin can be left unconnected if the PLL is not used.", 6 STATUS (out) "Programmable Status Output.", 7 REF_SEL (in) "Reference Select. It selects REF1 (low) or REF2 (high). This pin has an internal 30 K ohm pull-down resistor.", 8 ~{SYNC} (in) "Manual Synchronizations and Manual Holdover. This pin initiates a manual synchronization and is used for manual holdover. Active low. This pin has an internal 30 K ohm pull-up resistor.", 9 LF (in) "Loop Filter (Input). It connects internally to the VCO control voltage node.", 10 BYPASS "This pin is for bypassing the LDO to ground with a 220 nF capacitor. This pin can be left unconnected if the PLL is not used.", 13 CLK (in) "Along with C\L\K\, this pin is the differential input for the clock distribution section.", 14 ~{CLK} (in) "Along with CLK, this pin is the differential input for the clock distribution section. If a single-ended input is connected to the CLK pin, connect a 0.1 uF bypass capacitor from this pin to ground.", 15 ~{CS} (in) "Serial Control Port Chip Select; Active Low. This pin has an internal 30 K ohm pull-up resistor.", 16 SCLK/SCL (in) "Serial Control Port Clock Signal. This pin has an internal 30 K ohm pull-down resistor in SPI mode but is high impedance in I2C mode.", 17 SDIO/SDA (io) "Serial Control Port Bidirectional Serial Data In/Out.", 18 SDO (hiz) "Serial Control Port Unidirectional Serial Data Out.", 20 SP1 (in) "Select SPI or I2C as the serial interface port and select the I2C slave address in I2C mode. Three-level logic. This pin is internally biased for the open logic level.", 21 SP0 (in) "Select SPI or I2C as the serial interface port and select the I2C slave address in I2C mode. Three-level logic. This pin is internally biased for the open logic level.", 22 EEPROM (in) "Setting this pin high selects the register values stored in the internal EEPROM to be loaded at reset and/or power-up. Setting this pin low causes the AD9520 to load the hard-coded default register values at power-up/reset. [see datasheet]", 23 ~{RESET} (in) "Chip Reset, Active Low. This pin has an internal 30 K ohm pull-up resistor.", 24 ~{PD} (in) "Chip Power-Down, Active Low. This pin has an internal 30 K ohm pull-up resistor.", 25 OUT9 (OUT9A) (hiz) "Clock Output. This pin can be configured as one side of a differential LVPECL output or as a single-ended CMOS output.", 26 ~{OUT9} (OUT9B) (hiz) "Clock Output. This pin can be configured as one side of a differential LVPECL output or as a single-ended CMOS output.", 28 OUT10 (OUT10A) (hiz) "Clock Output. This pin can be configured as one side of a differential LVPECL output or as a single-ended CMOS output.", 29 ~{OUT10} (OUT10B) (hiz) "Clock Output. This pin can be configured as one side of a differential LVPECL output or as a single-ended CMOS output.", 30 OUT11 (OUT11A) (hiz) "Clock Output. This pin can be configured as one side of a differential LVPECL output or as a single-ended CMOS output.", 31 ~{OUT11} (OUT11B) (hiz) "Clock Output. This pin can be configured as one side of a differential LVPECL output or as a single-ended CMOS output.", 33 OUT6 (OUT6A) (hiz) "Clock Output. This pin can be configured as one side of a differential LVPECL output or as a single-ended CMOS output.", 34 ~{OUT6} (OUT6B) (hiz) "Clock Output. This pin can be configured as one side of a differential LVPECL output or as a single-ended CMOS output.", 36 OUT7 (OUT7A) (hiz) "Clock Output. This pin can be configured as one side of a differential LVPECL output or as a single-ended CMOS output.", 37 ~{OUT7} (OUT7B) (hiz) "Clock Output. This pin can be configured as one side of a differential LVPECL output or as a single-ended CMOS output.", 38 OUT8 (OUT8A) (hiz) "Clock Output. This pin can be configured as one side of a differential LVPECL output or as a single-ended CMOS output.", 39 ~{OUT8} (OUT8B) (hiz) "Clock Output. This pin can be configured as one side of a differential LVPECL output or as a single-ended CMOS output.", 42 ~{OUT5} (OUT5B) (hiz) "Clock Output. This pin can be configured as one side of a differential LVPECL output or as a single-ended CMOS output.", 43 OUT5 (OUT5A) (hiz) "Clock Output. This pin can be configured as one side of a differential LVPECL output or as a single-ended CMOS output.", 44 ~{OUT4} (OUT4B) (hiz) "Clock Output. This pin can be configured as one side of a differential LVPECL output or as a single-ended CMOS output.", 45 OUT4 (OUT4A) (hiz) "Clock Output. This pin can be configured as one side of a differential LVPECL output or as a single-ended CMOS output.", 47 ~{OUT3} (OUT3B) (hiz) "Clock Output. This pin can be configured as one side of a differential LVPECL output or as a single-ended CMOS output.", 48 OUT3 (OUT3A) (hiz) "Clock Output. This pin can be configured as one side of a differential LVPECL output or as a single-ended CMOS output.", 50 ~{OUT2} (OUT2B) (hiz) "Clock Output. This pin can be configured as one side of a differential LVPECL output or as a single-ended CMOS output.", 51 OUT2 (OUT2A) (hiz) "Clock Output. This pin can be configured as one side of a differential LVPECL output or as a single-ended CMOS output.", 52 ~{OUT1} (OUT1B) (hiz) "Clock Output. This pin can be configured as one side of a differential LVPECL output or as a single-ended CMOS output.", 53 OUT1 (OUT1A) (hiz) "Clock Output. This pin can be configured as one side of a differential LVPECL output or as a single-ended CMOS output.", 55 ~{OUT0} (OUT0B) (hiz) "Clock Output. This pin can be configured as one side of a differential LVPECL output or as a single-ended CMOS output.", 56 OUT0 (OUT0A) (hiz) "Clock Output. This pin can be configured as one side of a differential LVPECL output or as a single-ended CMOS output.", 58 RSET (in) "Clock Distribution Current Set Resistor. Connect a 4.12 K ohm resistor from this pin to GND.", 62 CPRSET (in) "Charge Pump Current Set Resistor. Connect a 5.1 K ohm resistor from this pin to GND.This resistor can be omitted if the PLL is not used.", 63 ~{REFIN} (REF2) (in) "Along with REFIN, this is the differential input for the PLL reference. Alternatively, this pin is a single-ended input for REF2.", 64 REFIN (REF1) (in) "Along with R\E\F\I\N\, this is the differential input for the PLL reference. Alternatively, this pin is a single-ended input for REF1."
part B pins: 1 VS (power) "3.3 V Power Pins.", 4 VCP (power) "Power Supply for Charge Pump (CP); VS < VCP < 5.0 V. VCP must still be connected to 3.3 V if the PLL is not used.", 11 VS (power) "3.3 V Power Pins.", 12 VS (power) "3.3 V Power Pins.", 19 GND (power) "Ground Pins.", 27 VS_DRV (power) "Output Driver Power Supply Pins. As a group, these pins can be set to either 2.5 V or 3.3 V. All four pins must be set to the same voltage.", 32 VS (power) "3.3 V Power Pins.", 35 VS_DRV (power) "Output Driver Power Supply Pins. As a group, these pins can be set to either 2.5 V or 3.3 V. All four pins must be set to the same voltage.", 40 VS (power) "3.3 V Power Pins.", 41 VS (power) "3.3 V Power Pins.", 46 VS_DRV (power) "Output Driver Power Supply Pins. As a group, these pins can be set to either 2.5 V or 3.3 V. All four pins must be set to the same voltage.", 49 VS (power) "3.3 V Power Pins.", 54 VS_DRV (power) "Output Driver Power Supply Pins. As a group, these pins can be set to either 2.5 V or 3.3 V. All four pins must be set to the same voltage.", 57 VS (power) "3.3 V Power Pins.", 59 GND (power) "Ground Pins.", 60 VS (power) "3.3 V Power Pins.", 61 VS (power) "3.3 V Power Pins.", 65 EP (power) "The exposed die pad must be connected to GND."